# Altium schematic symbol library Jumper.SchLib: 1 symbol
Pins are listed as number, name and electrical type; pins without a type are passive.

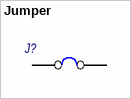
[diagram p0: symbol Jumper]

## Jumper
designator J?  (value not drawn)
Jumper, 2-Pin; Потребление, Вт: 0,0; Наименование: Перемычка оловянная; Назначение: Jumper, 2-Pin
footprint Jumper
pins: 1, 2